# Altium footprint library LTE_GPS_433_V1.0.PcbLib: 60 footprints (part 4 of 4)
Each footprint in its own frame and in the unit in brackets; x right, y up, seen from the top. Pads: shape width x height; smd on the part's side, far side on the other; paste and mask are expansions set on the pad; w line width, h text height; cw(c..) or ccw(c..) is an arc to the next point about the centre after c.
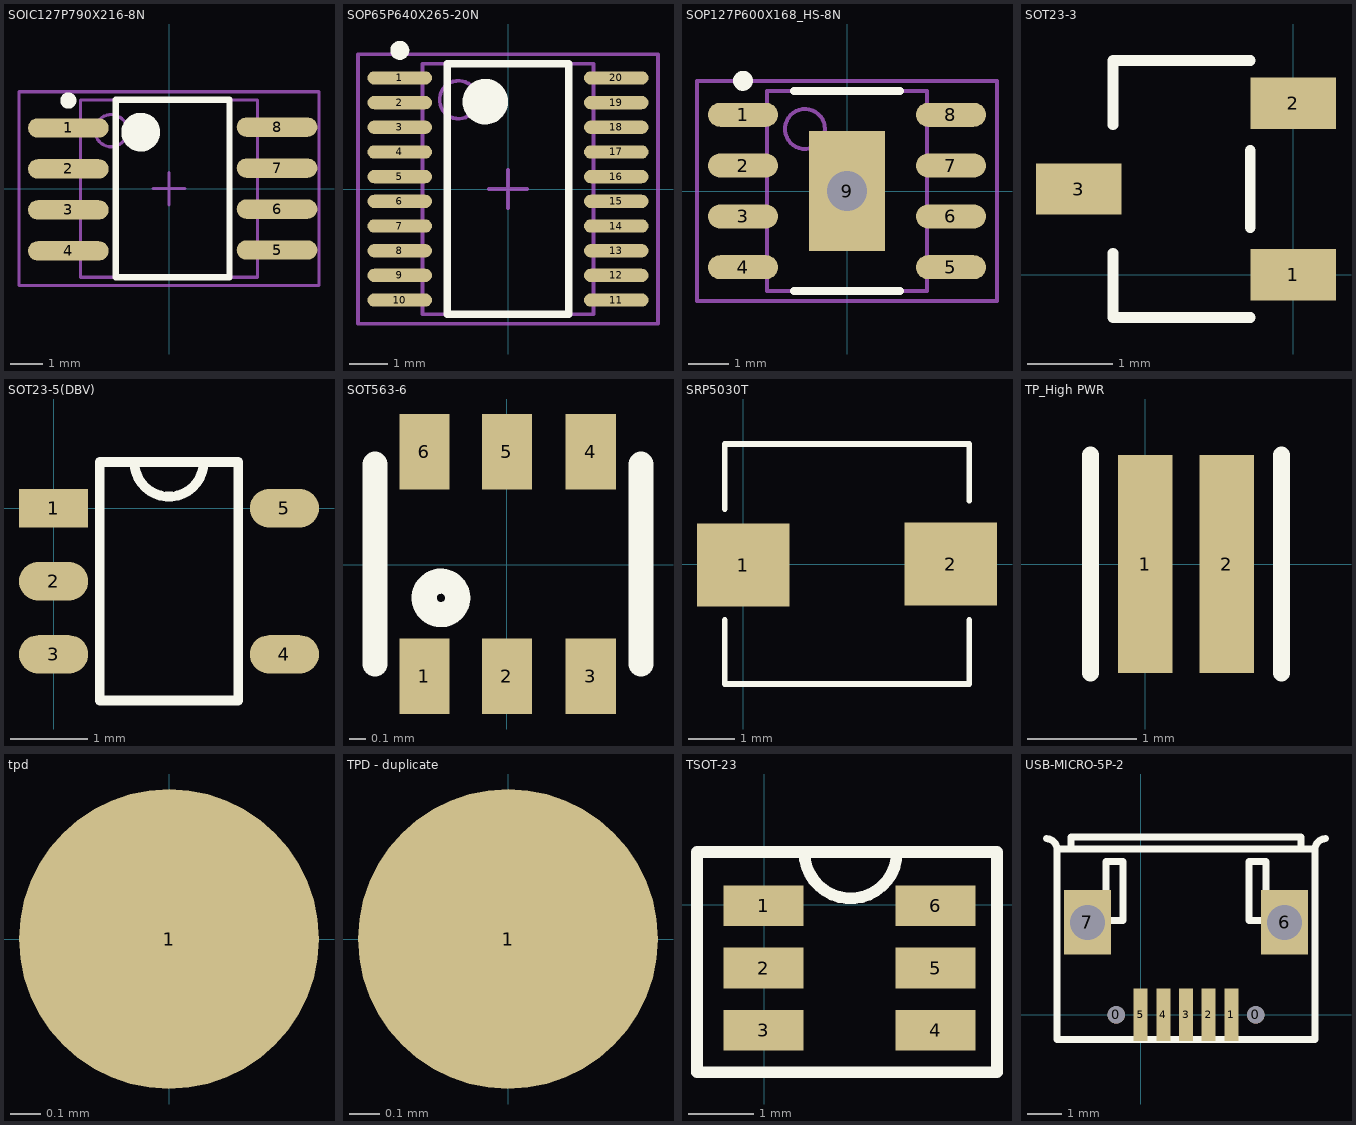
[diagram p3: the footprints below, top view; thin cyan lines are the x and y axes]

## SOIC127P790X216-8N [mm] "SOIC, 8-Leads, Body 5.5x5.5mm (max), Pitch 1.27mm, IPC Medium Density"
height 2.16
pads (8):
  oval 2.5x0.6 smd: 1(-3.121,1.88) 2(-3.121,0.61) 3(-3.121,-0.66) 4(-3.121,-1.93) 5(3.35,-1.905) 6(3.35,-0.635) 7(3.35,0.635) 8(3.35,1.905)
Top Overlay:
  circle w0.25: c-3.121,2.73 r0.125
  circle w0.6: c-0.875,1.75 r0.3
  lines w0.2: -1.646,2.725 -1.646,-2.75 1.875,-2.75 1.875,2.75 -1.646,2.75
Mechanical 13:
  circle w0.1: c-1.795,1.795 r0.5
  lines w0.1: -2.745,-2.745 -2.745,2.745 2.745,2.745 2.745,-2.745 -2.745,-2.745
Mechanical 15:
  lines w0.1: -0.5,0 0.5,0 ; 0,-0.5 0,0.5 ; -4.65,-3 -4.65,3 4.65,3 4.65,-3 -4.65,-3
3D body: height 2.16, standoff 0.1, extent -2.745,-2.745 2.745,2.745

## SOP65P640X265-20N [mm] "SOP, 20-Leads, Body 6.6x4.5mm (max), Pitch 0.65mm, IPC Medium Density"
height 2.65
pads (20):
  oval 1.7x0.35 smd: 1(-2.85,2.925) 2(-2.85,2.275) 3(-2.85,1.625) 4(-2.85,0.975) 5(-2.85,0.325) 6(-2.85,-0.325) 7(-2.85,-0.975) 8(-2.85,-1.625) 9(-2.85,-2.275) 10(-2.85,-2.925) 11(2.85,-2.925) 12(2.85,-2.275) 13(2.85,-1.625) 14(2.85,-0.975) 15(2.85,-0.325) 16(2.85,0.325) 17(2.85,0.975) 18(2.85,1.625) 19(2.85,2.275) 20(2.85,2.925)
Top Overlay:
  circle w0.6: c-0.6,2.3 r0.3
  circle w0.25: c-2.85,3.65 r0.125
  lines w0.2: -1.6,-3.3 1.6,-3.3 1.6,3.3 -1.6,3.3 -1.6,-3.3
Mechanical 13:
  circle w0.1: c-1.3,2.35 r0.5
  lines w0.1: -2.25,-3.3 2.25,-3.3 2.25,3.3 -2.25,3.3 -2.25,-3.3
Mechanical 15:
  lines w0.1: -0.5,0 0.5,0 ; 0,-0.5 0,0.5 ; -3.95,-3.55 3.95,-3.55 3.95,3.55 -3.95,3.55 -3.95,-3.55
3D body: height 2.65, standoff 0.1, extent -2.25,-3.3 2.25,3.3

## SOP127P600X168_HS-8N [mm] "SOP, 8-Leads, Body 5.0x4.0mm (max), Pitch 1.27mm, IPC Medium Density"
height 1.68
pads (9):
  oval 1.75x0.6 smd: 1(-2.6,1.905) 2(-2.6,0.635) 3(-2.6,-0.635) 4(-2.6,-1.905) 5(2.6,-1.905) 6(2.6,-0.635) 7(2.6,0.635) 8(2.6,1.905)
  rect 1.9x3 smd: 9(0,0)
via 0,0 diameter 1.5 hole 1
Top Overlay:
  circle w0.25: c-2.6,2.755 r0.125
  lines w0.2: -1.325,-2.5 1.325,-2.5 ; -1.325,2.5 1.325,2.5
Mechanical 13:
  circle w0.1: c-1.05,1.55 r0.5
  lines w0.1: -2,-2.5 -2,2.5 2,2.5 2,-2.5 -2,-2.5
Mechanical 15:
  lines w0.1: -0.5,0 0.5,0 ; 0,-0.5 0,0.5 ; -3.75,-2.75 -3.75,2.75 3.75,2.75 3.75,-2.75 -3.75,-2.75
3D body: height 1.68, standoff 0.25, extent -2,-2.5 2,2.5

## SOT23-3 [mm]
pads (3):
  rect 1x0.6 smd: 1(0,0) 2(0,2) 3(-2.5,1)
Top Overlay:
  lines w0.127: -2.1,0.25 -2.1,-0.5 -0.5,-0.5 ; -2.1,1.75 -2.1,2.5 -0.5,2.5 ; -0.5,0.55 -0.5,1.45

## SOT23-5(DBV) [mm]
pads (5):
  rect 0.9x0.5 smd: 1(0,0)
  oval 0.9x0.5 smd: 2(0,-0.95) 3(0,-1.9) 4(3,-1.9) 5(3,0)
Top Overlay:
  lines w0.127: 1.05,0.6 ccw(c1.5,0.6) 1.95,0.6 ; 0.6,-2.5 0.6,0.6 2.4,0.6 2.4,-2.5 0.6,-2.5

## SOT563-6 [mil] "SOT563-6"
pads (6):
  rect 12x18 smd: 1(-19.68,-26.57) 2(0,-26.57) 3(20,-26.57) 4(20,27) 5(0,27) 6(-19.68,27)
Top Overlay:
  circle w6: c-15.75,-7.87 r4
  lines w6: -31.5,-23.62 -31.5,24 ; 32,-23.62 32,24

## SRP5030T [mm]
pads (2):
  rect 2x1.8 smd: 1(0,-0.025) 2(4.5,0)
Top Overlay:
  lines w0.127: -0.4,-1.21 -0.4,-2.6 4.9,-2.6 4.9,-1.21 ; -0.4,1.194 -0.4,2.6 4.9,2.6 4.9,1.372

## TP_High PWR [mm]
height 1.016
pads (2):
  rect 0.5x2 smd: 1(0,0) 2(0.75,0)
Top Overlay:
  lines w0.152: -0.5,-1 -0.5,1 ; 1.25,-1 1.25,1

## tpd [mm]
height 1.4
pads (1):
  round 1 smd: 1(0,0)

## TPD - duplicate [mm]
pads (1):
  round 1 smd: 1(0,0)

## TSOT-23 [mm]
height 1
pads (6):
  rect 1.22x0.62 smd: 1(-0.007,-0.012) 2(-0.007,-0.962) 3(-0.007,-1.912) 4(2.613,-1.912) 5(2.613,-0.962) 6(2.613,-0.012)
Top Overlay:
  lines w0.178: 0.612,0.806 ccw(c1.319,0.806) 2.025,0.806 ; -1.023,-2.552 3.549,-2.552 3.549,0.298 3.549,0.806 -1.023,0.806 -1.023,0.298 -1.023,-2.552

## USB-MICRO-5P-2 [mm]
height 1
pads (9):
  round 0.5 hole 0.5 unplated: 0(-0.7,0) 0(3.3,0)
  rect 0.4x1.5 smd: 1(2.6,0) 2(1.95,0) 3(1.3,0) 4(0.65,0) 5(0,0)
  rect 1.35x1.85 hole 1: 6(4.125,2.65) 7(-1.525,2.65)
Top Overlay:
  lines w0.2: -2.7,5.05 cw(c-2.7,4.75) -2.4,4.75 5,4.75 cw(c5.3,4.75) 5.3,5.05 ; -2.4,4.8 -2.4,-0.7 5,-0.7 5,4.8 ; -2,4.75 -2,5.1 4.6,5.1 4.6,4.75 ; -1,2.7 -0.5,2.7 -0.5,4.4 -1,4.4 -1,2.7 ; 3.1,2.7 3.6,2.7 3.6,4.4 3.1,4.4 3.1,2.7